# Altium schematic symbol library AD835.SchLib: 1 symbol
Pins are listed as number, name and electrical type; pins without a type are passive.

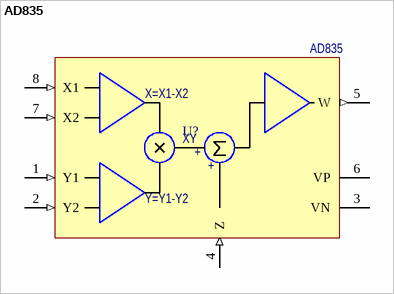
[diagram p0: symbol AD835]

## AD835
designator U?
250 MHz, Voltage Output, 4-Quadrant Multiplier; Потребление, Вт: 0,25; Назначение: 250 MHz, Voltage Output, 4-Quadrant Multiplier; ComponentLink1Description: DataSheet; ComponentLink1URL: https://www.alldatasheet.com/datasheet-pdf/pdf/48456/AD/AD835.html; Наименование: AD835
footprint SOIC-8
pins: 1 Y1 (in), 2 Y2 (in), 3 VN (power), 4 Z (in), 5 W (out), 6 VP (power), 7 X2 (in), 8 X1 (in)
text: X=X1-X2; XY; +; Y=Y1-Y2